# Altium footprint library 9774080360R-YIYUAN.PcbLib: 1 footprints
Each footprint in its own frame and in the unit in brackets; x right, y up, seen from the top. Pads: shape width x height; smd on the part's side, far side on the other; paste and mask are expansions set on the pad; w line width, h text height; cw(c..) or ccw(c..) is an arc to the next point about the centre after c.
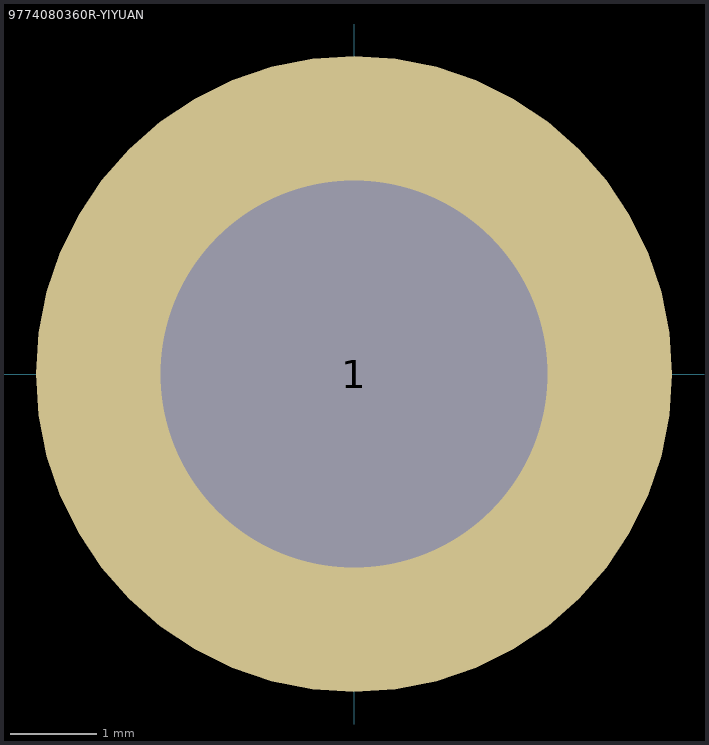
[diagram p0: the footprint, top view; thin cyan lines are the x and y axes]

## 9774080360R-YIYUAN [mm] "ROUND STANDOFF M3X0.5 STEEL 8MM"
height 1.6
pads (1):
  round 7.4 hole 4.5 paste-2539.97: 1(0,0)
Top Paste:
  lines w1.5: -2.766,-1.026 ccw(c0,0) -1.07,-2.749 ; -2.749,1.071 cw(c0,0) -1.087,2.742 ; 1.126,-2.727 ccw(c0,0) 2.768,-1.02 ; 1.135,2.723 cw(c0,0) 2.757,1.05
3D body "9774080360R (rev1).stp": height 8.01, standoff -1.39, extent -3,-3 3,3